# EAGLE library part PCM12SMTR (library PCM12SMTR)
Slide Switches 0.3A SPDT ON-ON Source: Datasheet <https://www.ckswitches.com/media/1424/pcm.pdf>
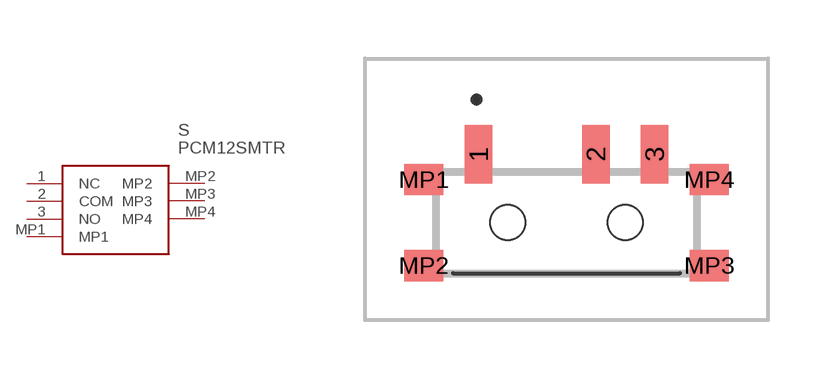
[diagram p0: symbol with the pads of PCM12SMTR; footprint PCM12SMTR]

Designator prefix S

## PCM12SMTR (Description: Slide Switches 0.3A SPDT ON-ON; Height: 1.4mm; Manufacturer_Name: C & K COMPONENTS; Manufacturer_Part_Number: PCM12SMTR; Mouser_Part_Number: 611-PCM12SMTR; Mouser_Price-Stock: https://www.mouser.co.uk/ProductDetail/CK/PCM12SMTR?qs=mfFuHy8STfL3qrPSfCHA7w%3D%3D)  [PCM12SMTR]
1  NC  nc
2  COM
3  NO
MP1  MP1
MP2  MP2
MP3  MP3
MP4  MP4

## Footprint PCM12SMTR (pad centres in mm)
PCM12SMTR-1
smd 0.7 x 1.5: 1 -2.25,1.75; 2 0.75,1.75; 3 2.25,1.75
smd 1 x 0.8: MP1 -3.65,1.1; MP2 -3.65,-1.1; MP3 3.65,-1.1; MP4 3.65,1.1
hole 0.9 at -1.5,0
hole 0.9 at 1.5,0